# Altium footprint library LARS_409_MC.PCBLIB: 33 footprints (part 3 of 3)
Each footprint in its own frame and in the unit in brackets; x right, y up, seen from the top. Pads: shape width x height; smd on the part's side, far side on the other; paste and mask are expansions set on the pad; w line width, h text height; cw(c..) or ccw(c..) is an arc to the next point about the centre after c.
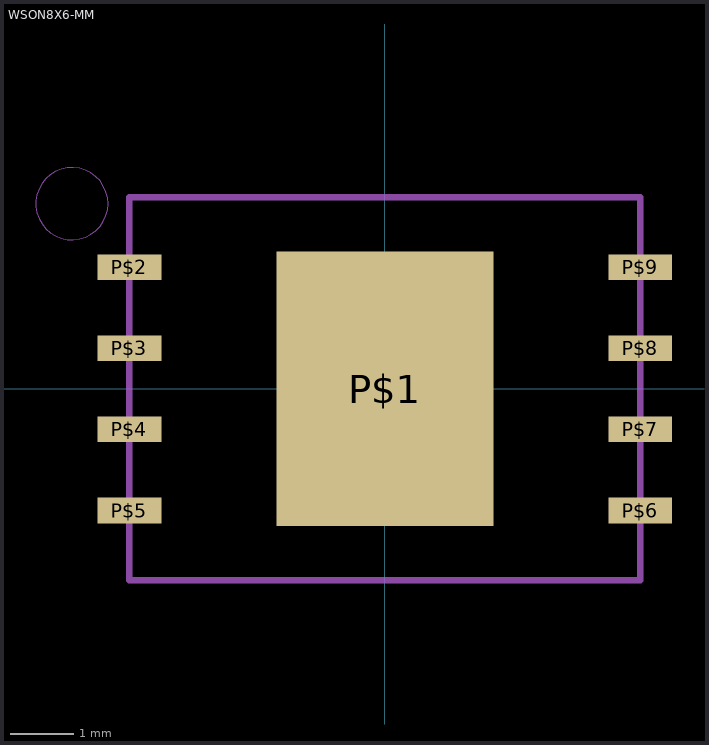
[diagram p2: the footprint, top view; thin cyan lines are the x and y axes]

## WSON8X6-MM [mm]
pads (9):
  rect 3.4x4.3 smd: P$1(0,0)
  rect 1x0.4 smd: P$2(-4,1.905) P$3(-4,0.635) P$4(-4,-0.635) P$5(-4,-1.905) P$6(4,-1.905) P$7(4,-0.635) P$8(4,0.635) P$9(4,1.905)
tPlace:
  circle w0: c-4.9,2.9 r0.566
  lines w0.102: -4,-3 -4,3 4,3 4,-3 -4,-3
3D body "wson8.STEP": height 0.77, standoff 0, extent -4.01,-3 4.01,3